# Altium footprint library USB-RIAA.PcbLib: 37 footprints (part 1 of 3)
Each footprint in its own frame and in the unit in brackets; x right, y up, seen from the top. Pads: shape width x height; smd on the part's side, far side on the other; paste and mask are expansions set on the pad; w line width, h text height; cw(c..) or ccw(c..) is an arc to the next point about the centre after c.
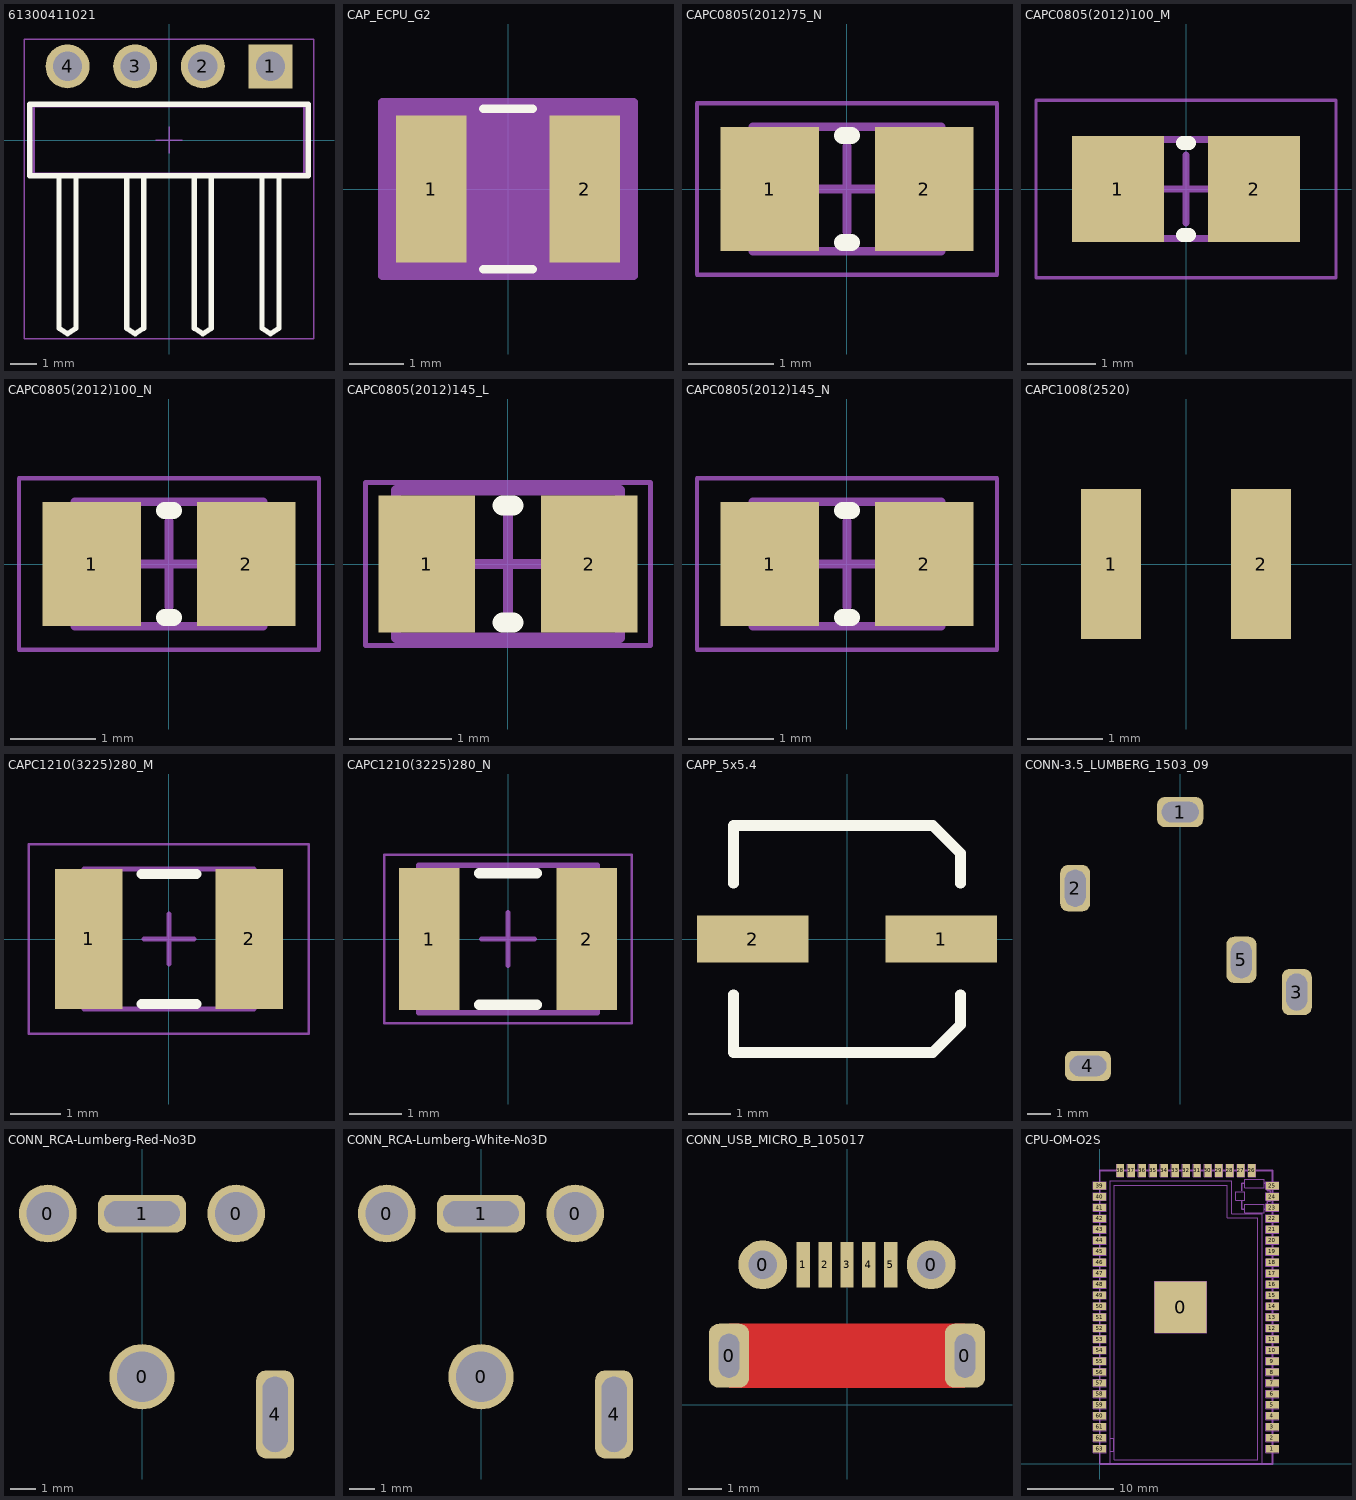
[diagram p0: the footprints below, top view; thin cyan lines are the x and y axes]

## 61300411021 [mm] "Pin Header, pitch 2.54 mm, THT, Angled, single row, 4p"
height 2.54
pads (4):
  rect 1.65x1.65 hole 1.1: 1(3.81,2.77)
  round 1.65 hole 1.1: 2(1.27,2.77) 3(-1.27,2.77) 4(-3.81,2.77)
Top Overlay:
  lines w0.2: -4.13,-1.345 -4.13,-7.07 -3.81,-7.27 -3.49,-7.07 -3.49,-1.345 ; -1.59,-1.345 -1.59,-7.07 -1.27,-7.27 -0.95,-7.07 -0.95,-1.345 ; 0.95,-1.345 0.95,-7.07 1.27,-7.27 1.59,-7.07 1.59,-1.345 ; 3.49,-1.345 3.49,-7.07 3.81,-7.27 4.13,-7.07 4.13,-1.345 ; -5.23,-1.345 -5.23,1.345 5.23,1.345 5.23,-1.345 -5.23,-1.345
Mechanical 13:
  lines w0.1: -4.13,-1.27 -4.13,-7.07 -3.81,-7.27 -3.49,-7.07 -3.49,-1.27 ; -1.59,-1.27 -1.59,-7.07 -1.27,-7.27 -0.95,-7.07 -0.95,-1.27 ; 0.95,-1.27 0.95,-7.07 1.27,-7.27 1.59,-7.07 1.59,-1.27 ; 3.49,-1.27 3.49,-7.07 3.81,-7.27 4.13,-7.07 4.13,-1.27 ; -5.08,-1.27 -5.08,1.27 5.08,1.27 5.08,-1.27 -5.08,-1.27
Mechanical 15:
  lines w0.05: -0.5,0 0.5,0 ; 0,-0.5 0,0.5 ; -5.43,-7.47 -5.43,3.795 5.43,3.795 5.43,-7.47 -5.43,-7.47
3D body "61300411021.stp": height 2.58, standoff -2.96, extent -5.08,-7.27 5.08,3.09

## CAP_ECPU_G2 [mil]
pads (2):
  rect 51x106 smd paste+0 mask+0: 1(-55.5,0) 2(55.5,0)
Top Overlay:
  lines w6: -17.89,-58 17.89,-58 ; -17.89,58 17.89,58
Mechanical 13:
  lines w1: -67,-53 -67,53 ; -67,-53 -30,-53 -30,53 -67,53 ; -67,-53 67,-53 ; -67,-53 -67,53 ; -67,53 67,53 ; 67,-53 30,-53 30,53 67,53 ; 67,-53 67,53 ; 67,-53 67,53
Mechanical 15:
  region: 91,-63 -91,-63 -91,63 91,63
  lines w6: -91,-63 -91,63 91,63 91,-63 -91,-63
3D body "CAP_ECPU_G2.stp": height 62.99, standoff 0, extent -67,-52.99 67.01,53
3D body: height 10, standoff 0, extent 0,0 10,10

## CAPC0805(2012)75_N [mm] "Chip Capacitor, Body 2.0x1.2mm, Height 0.75mm, IPC Medium Density"
height 0.75
pads (2):
  rect 1.15x1.45 smd: 1(-0.9,0) 2(0.9,0)
Top Overlay:
  lines w0.2: -0.05,-0.625 0.05,-0.625 ; -0.05,0.625 0.05,0.625
Mechanical 13:
  lines w0.1: -1.1,-0.725 -1.1,0.725 1.1,0.725 1.1,-0.725 -1.1,-0.725
Mechanical 15:
  lines w0.05: -1.75,-1 -1.75,1 1.75,1 1.75,-1 -1.75,-1
  lines w0.1: -0.5,0 0.5,0 ; 0,-0.5 0,0.5
3D body "CAPC-0805-T0.75-BN.stp": height 0.75, standoff 0, extent -1.05,-0.675 1.05,0.675

## CAPC0805(2012)100_M [mm] "Chip Capacitor, Body 2.0x1.2mm, Height 1.0mm, IPC Low Density"
height 1
pads (2):
  rect 1.35x1.55 smd: 1(-1,0) 2(1,0)
Top Overlay:
  lines w0.2: -0.05,-0.675 0.05,-0.675 ; -0.05,0.675 0.05,0.675
Mechanical 13:
  lines w0.1: -1.1,-0.725 1.1,-0.725 1.1,0.725 -1.1,0.725 -1.1,-0.725
Mechanical 15:
  lines w0.05: -2.2,-1.3 2.2,-1.3 2.2,1.3 -2.2,1.3 -2.2,-1.3
  lines w0.1: -0.5,0 0.5,0 ; 0,-0.5 0,0.5
3D body: height 1, standoff 0, extent 0.6,-0.725 1.1,0.725
3D body: height 1, standoff 0, extent -1.1,-0.725 -0.6,0.725
3D body: height 1, standoff 0, extent -0.6,-0.725 0.6,0.725

## CAPC0805(2012)100_N [mm] "Chip Capacitor, Body 2.0x1.2mm, Height 1.0mm, IPC Medium Density"
height 1
pads (2):
  rect 1.15x1.45 smd: 1(-0.9,0) 2(0.9,0)
Top Overlay:
  lines w0.2: -0.05,-0.625 0.05,-0.625 ; -0.05,0.625 0.05,0.625
Mechanical 13:
  lines w0.1: -1.1,-0.725 1.1,-0.725 1.1,0.725 -1.1,0.725 -1.1,-0.725
Mechanical 15:
  lines w0.05: -1.75,-1 1.75,-1 1.75,1 -1.75,1 -1.75,-1
  lines w0.1: -0.5,0 0.5,0 ; 0,-0.5 0,0.5
3D body: height 1, standoff 0, extent 0.6,-0.725 1.1,0.725
3D body: height 1, standoff 0, extent -1.1,-0.725 -0.6,0.725
3D body: height 1, standoff 0, extent -0.6,-0.725 0.6,0.725

## CAPC0805(2012)145_L [mm] "Chip Capacitor, Body 2.0x1.2mm, Height 1.45mm, IPC High Density"
height 1.45
pads (2):
  rect 0.95x1.35 smd: 1(-0.8,0) 2(0.8,0)
Top Overlay:
  lines w0.2: -0.05,-0.575 0.05,-0.575 ; -0.05,0.575 0.05,0.575
Mechanical 13:
  lines w0.1: -1.1,-0.725 1.1,-0.725 1.1,0.725 -1.1,0.725 -1.1,-0.725
Mechanical 15:
  lines w0.05: -1.4,-0.8 1.4,-0.8 1.4,0.8 -1.4,0.8 -1.4,-0.8
  lines w0.1: -0.5,0 0.5,0 ; 0,-0.5 0,0.5
3D body: height 1.45, standoff 0, extent 0.6,-0.725 1.1,0.725
3D body: height 1.45, standoff 0, extent -1.1,-0.725 -0.6,0.725
3D body: height 1.45, standoff 0, extent -0.6,-0.725 0.6,0.725

## CAPC0805(2012)145_N [mm] "Chip Capacitor, Body 2.0x1.2mm, Height 1.45mm, IPC Medium Density"
height 1.45
pads (2):
  rect 1.15x1.45 smd: 1(-0.9,0) 2(0.9,0)
Top Overlay:
  lines w0.2: -0.05,-0.625 0.05,-0.625 ; -0.05,0.625 0.05,0.625
Mechanical 13:
  lines w0.1: -1.1,-0.725 1.1,-0.725 1.1,0.725 -1.1,0.725 -1.1,-0.725
Mechanical 15:
  lines w0.05: -1.75,-1 1.75,-1 1.75,1 -1.75,1 -1.75,-1
  lines w0.1: -0.5,0 0.5,0 ; 0,-0.5 0,0.5
3D body: height 1.45, standoff 0, extent 0.6,-0.725 1.1,0.725
3D body: height 1.45, standoff 0, extent -1.1,-0.725 -0.6,0.725
3D body: height 1.45, standoff 0, extent -0.6,-0.725 0.6,0.725

## CAPC1008(2520) [mm] "1008"
height 1.2
pads (2):
  rect 0.8x2 smd: 1(-1,0) 2(1,0)
3D body: height 1.6, standoff 0, extent -1.25,-1 1.25,1

## CAPC1210(3225)280_M [mm] "Chip Capacitor, Body 3.2x2.5mm, Height 2.8mm, IPC Low Density"
height 2.8
pads (2):
  rect 1.35x2.8 smd: 1(-1.6,0) 2(1.6,0)
Top Overlay:
  lines w0.2: -0.55,-1.3 0.55,-1.3 ; -0.55,1.3 0.55,1.3
Mechanical 13:
  lines w0.1: -1.7,-1.4 1.7,-1.4 1.7,1.4 -1.7,1.4 -1.7,-1.4
Mechanical 15:
  lines w0.05: -2.8,-1.9 2.8,-1.9 2.8,1.9 -2.8,1.9 -2.8,-1.9
  lines w0.1: -0.5,0 0.5,0 ; 0,-0.5 0,0.5
3D body: height 2.8, standoff 0, extent 1.2,-1.4 1.7,1.4
3D body: height 2.8, standoff 0, extent -1.7,-1.4 -1.2,1.4
3D body: height 2.8, standoff 0, extent -1.2,-1.4 1.2,1.4

## CAPC1210(3225)280_N [mm] "Chip Capacitor, Body 3.2x2.5mm, Height 2.8mm, IPC Medium Density"
height 2.8
pads (2):
  rect 1.15x2.7 smd: 1(-1.5,0) 2(1.5,0)
Top Overlay:
  lines w0.2: -0.55,-1.25 0.55,-1.25 ; -0.55,1.25 0.55,1.25
Mechanical 13:
  lines w0.1: -1.7,-1.4 1.7,-1.4 1.7,1.4 -1.7,1.4 -1.7,-1.4
Mechanical 15:
  lines w0.05: -2.35,-1.6 2.35,-1.6 2.35,1.6 -2.35,1.6 -2.35,-1.6
  lines w0.1: -0.5,0 0.5,0 ; 0,-0.5 0,0.5
3D body: height 2.8, standoff 0, extent 1.2,-1.4 1.7,1.4
3D body: height 2.8, standoff 0, extent -1.7,-1.4 -1.2,1.4
3D body: height 2.8, standoff 0, extent -1.2,-1.4 1.2,1.4

## CAPP_5x5.4 [mm]
pads (2):
  rect 2.6x1.1 smd: 1(2.2,0) 2(-2.2,0)
Top Overlay:
  lines w0.254: -2.65,-1.3 -2.65,-2.65 2,-2.65 2.65,-2 2.65,-1.3 ; -2.65,1.3 -2.65,2.65 2,2.65 2.65,2 2.65,1.3
3D body "STL?STL?STEP?CAP_EEE_C-L.step": height 5.57, standoff 0, extent -3.251,-2.756 3.251,2.756

## CONN-3.5_LUMBERG_1503_09 [mm] "3.5 mm"
height 6
pads (5):
  rrect50% 2x1.3 hole 0.9 slot 1.6 at 0 deg: 1(0,-2.1) 4(-4,-13.1)
  rrect50% 1.3x2 hole 0.9 slot 1.6 at 90 deg: 2(-4.55,-5.4) 3(5.05,-9.9) 5(2.65,-8.5)
3D body "lumberg_1503_09.stp": height 7.01, standoff -2.64, extent -5.5,-14.1 6,3.5

## CONN_RCA-Lumberg-Red-No3D [mm]
pads (5):
  round 2.3 hole 1.7: 0(-3.75,-4) 0(3.75,-4)
  round 2.6 hole 2: 0(0,-10.5)
  rrect50% 3.5x1.5 hole 1 slot 3 at 0 deg: 1(0,-4)
  rrect50% 1.5x3.5 hole 1 slot 3 at 90 deg: 4(5.3,-12)

## CONN_RCA-Lumberg-White-No3D [mm]
pads (5):
  round 2.3 hole 1.7: 0(-3.75,-4) 0(3.75,-4)
  round 2.6 hole 2: 0(0,-10.5)
  rrect50% 3.5x1.5 hole 1 slot 3 at 0 deg: 1(0,-4)
  rrect50% 1.5x3.5 hole 1 slot 3 at 90 deg: 4(5.3,-12)

## CONN_USB_MICRO_B_105017 [mm]
pads (9):
  rrect50% 1.2x1.9 hole 0.6 slot 1.3 at 90 deg: 0(-3.5,1.45) 0(3.5,1.45)
  round 1.45 hole 0.85 mask+0.05: 0(-2.5,4.15) 0(2.5,4.15)
  rect 0.4x1.35 smd paste+0.05 mask+0.05: 1(-1.3,4.15) 2(-0.65,4.15) 3(0,4.15) 4(0.65,4.15) 5(1.3,4.15)
Top Layer:
  region: -3.5,2.4 3.5,2.4 3.5,0.5 -3.5,0.5
Top Paste:
  region: 1.75,0.75 0.25,0.75 0.25,2.25 1.75,2.25
  region: -1.75,2.25 -0.25,2.25 -0.25,0.75 -1.75,0.75
Top Solder:
  region: 1.8,0.7 0.2,0.7 0.2,2.3 1.8,2.3
  region: -1.8,2.3 -0.2,2.3 -0.2,0.7 -1.8,0.7
3D body "1050170001.stp": height 2.71, standoff -0.59, extent -4.1,-1.15 4.1,4.25

## CPU-OM-O2S [mm] "LINUX MODULE"
pads (64):
  rect 6.041x5.959 smd mask+0.102: 0(9.369,18.174)
  rect 1.5x0.86 smd mask+0.102: 1(19.99,1.76) 2(20,3.03) 3(20,4.3) 4(20,5.57) 5(20,6.84) 6(20,8.11) 7(20,9.38) 8(20,10.65) 9(20,11.92) 10(20,13.19) 11(20,14.46) 12(20,15.73) 13(20,17) 14(20,18.27) 15(20,19.54) 16(20,20.81) 17(20,22.08) 18(20,23.35) 19(20,24.62) 20(20,25.89) 21(20,27.16) 22(20,28.43) 23(20,29.7) 24(20,30.97) 25(20,32.24) 39(-0.01,32.24) 40(-0.01,30.97) 41(-0.01,29.7) 42(-0.01,28.43) 43(-0.01,27.16) 44(-0.01,25.89) 45(-0.01,24.62) 46(-0.01,23.35) 47(-0.01,22.08) 48(-0.01,20.81) 49(-0.01,19.54) 50(-0.01,18.27) 51(-0.01,17) 52(-0.01,15.73) 53(-0.01,14.46) 54(-0.01,13.19) 55(-0.01,11.92) 56(-0.01,10.65) 57(-0.01,9.38) 58(-0.01,8.11) 59(-0.01,6.84) 60(-0.01,5.57) 61(-0.01,4.3) 62(-0.01,3.03) 63(-0.01,1.76)
  rect 0.86x1.5 smd mask+0.102: 26(17.62,33.99) 27(16.35,33.99) 28(15.08,33.99) 29(13.81,33.99) 30(12.54,33.99) 31(11.27,33.99) 32(10,33.99) 33(8.73,33.99) 34(7.46,33.99) 35(6.19,33.99) 36(4.92,33.99) 37(3.65,33.99) 38(2.38,33.99)
Mechanical 2:
  drawing of 299 lines, arcs and shapes, not listed
Mechanical 11:
  lines w0.2: 0,0 20,0 20,34 0,34 0,0 ; 0,0 0,0
3D body "oMEGA2s.step": height 2.71, standoff 0.01, extent 0,0 20,34